# Altium integrated library ON Semi Silicon Controlled Rectifiers (SCRs).IntLib: 163 symbols (part 4 of 4)
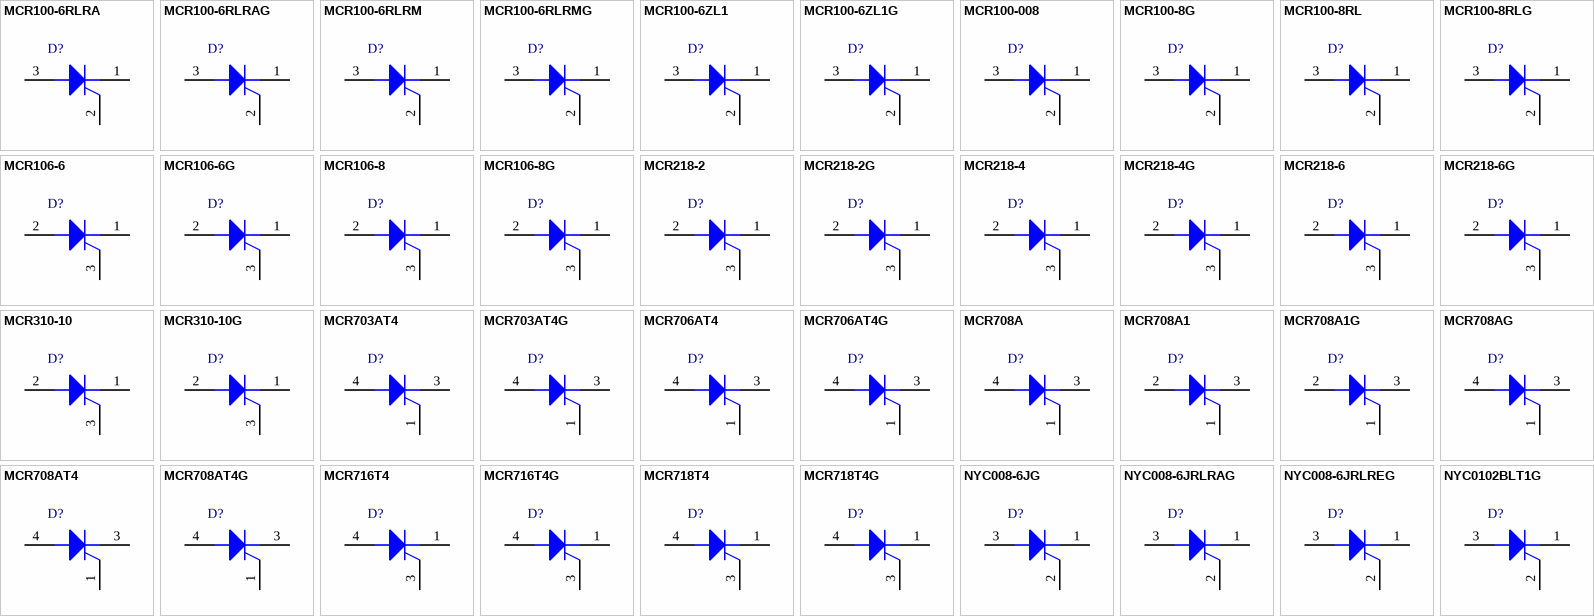
[diagram p7: symbols MCR100-6RLRA to NYC0102BLT1G]

## MCR218-6G
designator D?
Silicon Controlled Rectifier, Reverse Blocking Thyristor, 25 mA, 1.5 V, 3-Pin TO-220, Pb-Free, Bulk Box; Manufacturer: On Semiconductor; PartNumber: MCR218-6G; IGT Max (mA): 25; IT(RMS) Max (A): 8; ITSM Max (A): 100; VGT Max (V): 1.5; DatasheetVersion: Rev. 4; PackageVersion: Rev. O, 07/2008; PackageReference: TO-220-3-221A-07; PackageDescription: 3-Pin Flange Mount, Vertical Straight Lead, Body 9.97 x 4.445 mm, Pitch 2.54 mm; Supplier 1: Digi-Key; Supplier Part Number 1: MCR218-6G-ND; Supplier 2: Newark; Supplier Part Number 2: 26K3701; Supplier 3: Mouser; Supplier Part Number 3: 863-MCR218-6G; Packing: Bulk Box; RoHS: Pb-Free; Mounting Technology: Through Hole; ComponentLink1Description: Manufacturer URL; ComponentLink1URL: http://www.onsemi.com/; ComponentLink2Description: Datasheet; ComponentLink2URL: http://www.onsemi.com/pub_link/Collateral/MCR218-D.PDF; ComponentLink3Description: Package Specification; ComponentLink3URL: http://www.onsemi.com/pub_link/Collateral/221A-07.PDF
footprint ONSC-TO-220-3-221A-07 (FM, 3-Leads, Body 10.3x4.85mm, Pitch 2.54mm)
pins: 1 K, 2 A, 3 G

## MCR310-10
designator D?
Silicon Controlled Rectifier, Reverse Blocking Triode Thyristor, 0.2 mA, 1.5 V, 3-Pin TO-220, Bulk Box; Manufacturer: On Semiconductor; PartNumber: MCR310-10; IGT Max (mA): 0.2; IT(RMS) Max (A): 10; ITSM Max (A): 100; VGT Max (V): 1.5; DatasheetVersion: Rev. 3; PackageVersion: Rev. O, 07/2008; PackageReference: TO-220-3-221A-07; PackageDescription: 3-Pin Flange Mount, Vertical Straight Lead, Body 9.97 x 4.445 mm, Pitch 2.54 mm; Packing: Bulk Box; Mounting Technology: Through Hole; ComponentLink1Description: Manufacturer URL; ComponentLink1URL: http://www.onsemi.com/; ComponentLink2Description: Datasheet; ComponentLink2URL: http://www.onsemi.cn/pub_link/Collateral/MCR310-D.PDF; ComponentLink3Description: Package Specification; ComponentLink3URL: http://www.onsemi.com/pub_link/Collateral/221A-07.PDF
footprint ONSC-TO-220-3-221A-07 (FM, 3-Leads, Body 10.3x4.85mm, Pitch 2.54mm)
pins: 1 K, 2 A, 3 G

## MCR310-10G
designator D?
Silicon Controlled Rectifier, Reverse Blocking Triode Thyristor, 0.2 mA, 1.5 V, 3-Pin TO-220, Pb-Free, Bulk Box; Manufacturer: On Semiconductor; PartNumber: MCR310-10G; IGT Max (mA): 0.2; IT(RMS) Max (A): 10; ITSM Max (A): 100; VGT Max (V): 1.5; DatasheetVersion: Rev. 3; PackageVersion: Rev. O, 07/2008; PackageReference: TO-220-3-221A-07; PackageDescription: 3-Pin Flange Mount, Vertical Straight Lead, Body 9.97 x 4.445 mm, Pitch 2.54 mm; Supplier 1: Digi-Key; Supplier Part Number 1: MCR310-10GOS-ND; Supplier 2: Farnell; Supplier Part Number 2: 1126229; Supplier 3: Newark; Supplier Part Number 3: 42K0033; Supplier 4: Mouser; Supplier Part Number 4: 863-MCR310-10G; Packing: Bulk Box; RoHS: Pb-Free; Mounting Technology: Through Hole; ComponentLink1Description: Manufacturer URL; ComponentLink1URL: http://www.onsemi.com/; ComponentLink2Description: Datasheet; ComponentLink2URL: http://www.onsemi.cn/pub_link/Collateral/MCR310-D.PDF; ComponentLink3Description: Package Specification; ComponentLink3URL: http://www.onsemi.com/pub_link/Collateral/221A-07.PDF
footprint ONSC-TO-220-3-221A-07 (FM, 3-Leads, Body 10.3x4.85mm, Pitch 2.54mm)
pins: 1 K, 2 A, 3 G

## MCR703AT4
designator D?
Sensitive Gate Silicon Controlled Rectifier, Reverse Blocking Thyristor, 3-Pin DPAK, Tape and Reel; Manufacturer: On Semiconductor; PartNumber: MCR703AT4; IT(RMS) Max (A): 4; DatasheetVersion: Rev. 11; PackageVersion: Rev. E, 02/2014; PackageReference: DPAK-3-369C-01; PackageDescription: 3-Pin Flange Mount, Body 6.54 x 6.095 mm, Pitch 2.29 mm; Packing: Tape and Reel; Mounting Technology: Surface Mount; ComponentLink1Description: Manufacturer URL; ComponentLink1URL: http://www.onsemi.com/; ComponentLink2Description: Datasheet; ComponentLink2URL: http://www.onsemi.cn/pub_link/Collateral/MCR703A-D.PDF; ComponentLink3Description: Package Specification; ComponentLink3URL: http://www.onsemi.cn/pub_link/Collateral/369C.PDF
footprint ONSC-DPAK-3-369C-01_V (DPAK, 3-Leads, Body 6.54x6.095mm, Pitch 2.29mm)
pins: 1 G, 3 K, 4 A

## MCR703AT4G
designator D?
Sensitive Gate Silicon Controlled Rectifier, Reverse Blocking Thyristor, 3-Pin DPAK, Pb-Free, Tape and Reel; Manufacturer: On Semiconductor; PartNumber: MCR703AT4G; IT(RMS) Max (A): 4; DatasheetVersion: Rev. 11; PackageVersion: Rev. E, 02/2014; PackageReference: DPAK-3-369C-01; PackageDescription: 3-Pin Flange Mount, Body 6.54 x 6.095 mm, Pitch 2.29 mm; Supplier 1: Digi-Key; Supplier Part Number 1: MCR703AT4GOSTR-ND; Supplier 2: Digi-Key; Supplier Part Number 2: MCR703AT4GOSCT-ND; Supplier 3: Digi-Key; Supplier Part Number 3: MCR703AT4GOSDKR-ND; Supplier 4: Farnell; Supplier Part Number 4: 1611418; Supplier 5: Farnell; Supplier Part Number 5: 1611418RL; Supplier 6: Newark; Supplier Part Number 6: 26K3706; Supplier 7: Mouser; Supplier Part Number 7: 863-MCR703AT4G; Packing: Tape and Reel; RoHS: Pb-Free; Mounting Technology: Surface Mount; ComponentLink1Description: Manufacturer URL; ComponentLink1URL: http://www.onsemi.com/; ComponentLink2Description: Datasheet; ComponentLink2URL: http://www.onsemi.cn/pub_link/Collateral/MCR703A-D.PDF; ComponentLink3Description: Package Specification; ComponentLink3URL: http://www.onsemi.cn/pub_link/Collateral/369C.PDF
footprint ONSC-DPAK-3-369C-01_V (DPAK, 3-Leads, Body 6.54x6.095mm, Pitch 2.29mm)
pins: 1 G, 3 K, 4 A

## MCR706AT4
designator D?
Sensitive Gate Silicon Controlled Rectifier, Reverse Blocking Thyristor, 3-Pin DPAK, Tape and Reel; Manufacturer: On Semiconductor; PartNumber: MCR706AT4; IT(RMS) Max (A): 4; DatasheetVersion: Rev. 11; PackageVersion: Rev. E, 02/2014; PackageReference: DPAK-3-369C-01; PackageDescription: 3-Pin Flange Mount, Body 6.54 x 6.095 mm, Pitch 2.29 mm; Packing: Tape and Reel; Mounting Technology: Surface Mount; ComponentLink1Description: Manufacturer URL; ComponentLink1URL: http://www.onsemi.com/; ComponentLink2Description: Datasheet; ComponentLink2URL: http://www.onsemi.cn/pub_link/Collateral/MCR703A-D.PDF; ComponentLink3Description: Package Specification; ComponentLink3URL: http://www.onsemi.cn/pub_link/Collateral/369C.PDF
footprint ONSC-DPAK-3-369C-01_V (DPAK, 3-Leads, Body 6.54x6.095mm, Pitch 2.29mm)
pins: 1 G, 3 K, 4 A

## MCR706AT4G
designator D?
Sensitive Gate Silicon Controlled Rectifier, Reverse Blocking Thyristor, 3-Pin DPAK, Pb-Free, Tape and Reel; Manufacturer: On Semiconductor; PartNumber: MCR706AT4G; IT(RMS) Max (A): 4; DatasheetVersion: Rev. 11; PackageVersion: Rev. E, 02/2014; PackageReference: DPAK-3-369C-01; PackageDescription: 3-Pin Flange Mount, Body 6.54 x 6.095 mm, Pitch 2.29 mm; Supplier 1: Digi-Key; Supplier Part Number 1: MCR706AT4GOSTR-ND; Supplier 2: Digi-Key; Supplier Part Number 2: MCR706AT4GOSCT-ND; Supplier 3: Farnell; Supplier Part Number 3: 1155713; Supplier 4: Newark; Supplier Part Number 4: 88H4692; Supplier 5: Mouser; Supplier Part Number 5: 863-MCR706AT4G; Packing: Tape and Reel; RoHS: Pb-Free; Mounting Technology: Surface Mount; ComponentLink1Description: Manufacturer URL; ComponentLink1URL: http://www.onsemi.com/; ComponentLink2Description: Datasheet; ComponentLink2URL: http://www.onsemi.cn/pub_link/Collateral/MCR703A-D.PDF; ComponentLink3Description: Package Specification; ComponentLink3URL: http://www.onsemi.cn/pub_link/Collateral/369C.PDF
footprint ONSC-DPAK-3-369C-01_V (DPAK, 3-Leads, Body 6.54x6.095mm, Pitch 2.29mm)
pins: 1 G, 3 K, 4 A

## MCR708A
designator D?
Sensitive Gate Silicon Controlled Rectifier, Reverse Blocking Thyristor, 3-Pin DPAK, Tube; Manufacturer: On Semiconductor; PartNumber: MCR708A; IT(RMS) Max (A): 4; DatasheetVersion: Rev. 11; PackageVersion: Rev. E, 02/2014; PackageReference: DPAK-3-369C-01; PackageDescription: 3-Pin Flange Mount, Body 6.54 x 6.095 mm, Pitch 2.29 mm; Packing: Tube; Mounting Technology: Surface Mount; ComponentLink1Description: Manufacturer URL; ComponentLink1URL: http://www.onsemi.com/; ComponentLink2Description: Datasheet; ComponentLink2URL: http://www.onsemi.cn/pub_link/Collateral/MCR703A-D.PDF; ComponentLink3Description: Package Specification; ComponentLink3URL: http://www.onsemi.cn/pub_link/Collateral/369C.PDF
footprint ONSC-DPAK-3-369C-01_V (DPAK, 3-Leads, Body 6.54x6.095mm, Pitch 2.29mm)
pins: 1 G, 3 K, 4 A

## MCR708A1
designator D?
Sensitive Gate Silicon Controlled Rectifier, Reverse Blocking Thyristor, 3-Pin IPAK, Tube; Manufacturer: On Semiconductor; PartNumber: MCR708A1; IT(RMS) Max (A): 4; DatasheetVersion: Rev. 11; PackageVersion: Rev. C, 12/2010; PackageReference: IPAK-3-369D-01; PackageDescription: 3-Pin Flange Mount, Vertical Straight Lead, Body 6.54 x 2.285 mm, Pitch 2.29 mm; Supplier 1: Digi-Key; Supplier Part Number 1: MCR708A1-ND; Packing: Tube; Mounting Technology: Through Hole; Code_JEDEC: TO-251; ComponentLink1Description: Manufacturer URL; ComponentLink1URL: http://www.onsemi.com/; ComponentLink2Description: Datasheet; ComponentLink2URL: http://www.onsemi.cn/pub_link/Collateral/MCR703A-D.PDF; ComponentLink3Description: Package Specification; ComponentLink3URL: http://www.onsemi.cn/pub_link/Collateral/369D.PDF
footprint ONSC-IPAK-3-369D-01 (FM, 3-Leads, Body 6.75x2.4mm, Pitch 2.29mm)
pins: 1 G, 2 A, 3 K

## MCR708A1G
designator D?
Sensitive Gate Silicon Controlled Rectifier, Reverse Blocking Thyristor, 3-Pin IPAK, Pb-Free, Tube; Manufacturer: On Semiconductor; PartNumber: MCR708A1G; IT(RMS) Max (A): 4; DatasheetVersion: Rev. 11; PackageVersion: Rev. C, 12/2010; PackageReference: IPAK-3-369D-01; PackageDescription: 3-Pin Flange Mount, Vertical Straight Lead, Body 6.54 x 2.285 mm, Pitch 2.29 mm; Supplier 1: Digi-Key; Supplier Part Number 1: MCR708A1G-ND; Supplier 2: Newark; Supplier Part Number 2: 26K3707; Supplier 3: Mouser; Supplier Part Number 3: 863-MCR708A1G; Packing: Tube; RoHS: Pb-Free; Mounting Technology: Through Hole; Code_JEDEC: TO-251; ComponentLink1Description: Manufacturer URL; ComponentLink1URL: http://www.onsemi.com/; ComponentLink2Description: Datasheet; ComponentLink2URL: http://www.onsemi.cn/pub_link/Collateral/MCR703A-D.PDF; ComponentLink3Description: Package Specification; ComponentLink3URL: http://www.onsemi.cn/pub_link/Collateral/369D.PDF
footprint ONSC-IPAK-3-369D-01 (FM, 3-Leads, Body 6.75x2.4mm, Pitch 2.29mm)
pins: 1 G, 2 A, 3 K

## MCR708AG
designator D?
Sensitive Gate Silicon Controlled Rectifier, Reverse Blocking Thyristor, 3-Pin DPAK, Pb-Free, Tube; Manufacturer: On Semiconductor; PartNumber: MCR708AG; IT(RMS) Max (A): 4; DatasheetVersion: Rev. 11; PackageVersion: Rev. E, 02/2014; PackageReference: DPAK-3-369C-01; PackageDescription: 3-Pin Flange Mount, Body 6.54 x 6.095 mm, Pitch 2.29 mm; Supplier 1: Digi-Key; Supplier Part Number 1: MCR708AGOS-ND; Supplier 2: Newark; Supplier Part Number 2: 42K0034; Supplier 3: Mouser; Supplier Part Number 3: 863-MCR708AG; Packing: Tube; RoHS: Pb-Free; Mounting Technology: Surface Mount; ComponentLink1Description: Manufacturer URL; ComponentLink1URL: http://www.onsemi.com/; ComponentLink2Description: Datasheet; ComponentLink2URL: http://www.onsemi.cn/pub_link/Collateral/MCR703A-D.PDF; ComponentLink3Description: Package Specification; ComponentLink3URL: http://www.onsemi.cn/pub_link/Collateral/369C.PDF
footprint ONSC-DPAK-3-369C-01_V (DPAK, 3-Leads, Body 6.54x6.095mm, Pitch 2.29mm)
pins: 1 G, 3 K, 4 A

## MCR708AT4
designator D?
Sensitive Gate Silicon Controlled Rectifier, Reverse Blocking Thyristor, 3-Pin DPAK, Tape and Reel; Manufacturer: On Semiconductor; PartNumber: MCR708AT4; IT(RMS) Max (A): 4; DatasheetVersion: Rev. 11; PackageVersion: Rev. E, 02/2014; PackageReference: DPAK-3-369C-01; PackageDescription: 3-Pin Flange Mount, Body 6.54 x 6.095 mm, Pitch 2.29 mm; Supplier 1: Digi-Key; Supplier Part Number 1: MCR708AT4OSCT-ND; Supplier 2: Digi-Key; Supplier Part Number 2: MCR708AT4OSDKR-ND; Packing: Tape and Reel; Mounting Technology: Surface Mount; ComponentLink1Description: Manufacturer URL; ComponentLink1URL: http://www.onsemi.com/; ComponentLink2Description: Datasheet; ComponentLink2URL: http://www.onsemi.cn/pub_link/Collateral/MCR703A-D.PDF; ComponentLink3Description: Package Specification; ComponentLink3URL: http://www.onsemi.cn/pub_link/Collateral/369C.PDF
footprint ONSC-DPAK-3-369C-01_V (DPAK, 3-Leads, Body 6.54x6.095mm, Pitch 2.29mm)
pins: 1 G, 3 K, 4 A

## MCR708AT4G
designator D?
Sensitive Gate Silicon Controlled Rectifier, Reverse Blocking Thyristor, 3-Pin DPAK, Pb-Free, Tape and Reel; Manufacturer: On Semiconductor; PartNumber: MCR708AT4G; IT(RMS) Max (A): 4; DatasheetVersion: Rev. 11; PackageVersion: Rev. E, 02/2014; PackageReference: DPAK-3-369C-01; PackageDescription: 3-Pin Flange Mount, Body 6.54 x 6.095 mm, Pitch 2.29 mm; Supplier 1: Digi-Key; Supplier Part Number 1: MCR708AT4GOSTR-ND; Supplier 2: Digi-Key; Supplier Part Number 2: MCR708AT4GOSCT-ND; Supplier 3: Digi-Key; Supplier Part Number 3: MCR708AT4GOSDKR-ND; Supplier 4: Farnell; Supplier Part Number 4: 1166984; Supplier 5: Farnell; Supplier Part Number 5: 1166984RL; Supplier 6: Farnell; Supplier Part Number 6: 2119779; Supplier 7: Newark; Supplier Part Number 7: 71J5365; Supplier 8: Mouser; Supplier Part Number 8: 863-MCR708AT4G; Packing: Tape and Reel; RoHS: Pb-Free; Mounting Technology: Surface Mount; ComponentLink1Description: Manufacturer URL; ComponentLink1URL: http://www.onsemi.com/; ComponentLink2Description: Datasheet; ComponentLink2URL: http://www.onsemi.cn/pub_link/Collateral/MCR703A-D.PDF; ComponentLink3Description: Package Specification; ComponentLink3URL: http://www.onsemi.cn/pub_link/Collateral/369C.PDF
footprint ONSC-DPAK-3-369C-01_V (DPAK, 3-Leads, Body 6.54x6.095mm, Pitch 2.29mm)
pins: 1 G, 3 K, 4 A

## MCR716T4
designator D?
Sensitive Gate Silicon Controlled Rectifier, Reverse Blocking Thyristor, 3-Pin DPAK, Tape and Reel; Manufacturer: On Semiconductor; PartNumber: MCR716T4; IT(RMS) Max (A): 4; ITSM Max (A): 25; DatasheetVersion: Rev. 8; PackageVersion: Rev. E, 02/2014; PackageReference: DPAK-3-369C-01; PackageDescription: 3-Pin Flange Mount, Body 6.54 x 6.095 mm, Pitch 2.29 mm; Supplier 1: Digi-Key; Supplier Part Number 1: MCR716T4OSCT-ND; Supplier 2: Digi-Key; Supplier Part Number 2: MCR716T4OSDKR-ND; Packing: Tape and Reel; Mounting Technology: Surface Mount; ComponentLink1Description: Manufacturer URL; ComponentLink1URL: http://www.onsemi.com/; ComponentLink2Description: Datasheet; ComponentLink2URL: http://www.onsemi.cn/pub_link/Collateral/MCR716-D.PDF; ComponentLink3Description: Package Specification; ComponentLink3URL: http://www.onsemi.cn/pub_link/Collateral/369C.PDF
footprint ONSC-DPAK-3-369C-01_V (DPAK, 3-Leads, Body 6.54x6.095mm, Pitch 2.29mm)
pins: 1 K, 3 G, 4 A

## MCR716T4G
designator D?
Sensitive Gate Silicon Controlled Rectifier, Reverse Blocking Thyristor, 3-Pin DPAK, Pb-Free, Tape and Reel; Manufacturer: On Semiconductor; PartNumber: MCR716T4G; IT(RMS) Max (A): 4; ITSM Max (A): 25; DatasheetVersion: Rev. 8; PackageVersion: Rev. E, 02/2014; PackageReference: DPAK-3-369C-01; PackageDescription: 3-Pin Flange Mount, Body 6.54 x 6.095 mm, Pitch 2.29 mm; Supplier 1: Digi-Key; Supplier Part Number 1: MCR716T4GOSTR-ND; Supplier 2: Digi-Key; Supplier Part Number 2: MCR716T4GOSCT-ND; Supplier 3: Digi-Key; Supplier Part Number 3: MCR716T4GOSDKR-ND; Supplier 4: Newark; Supplier Part Number 4: 10N9431; Supplier 5: Newark; Supplier Part Number 5: 42K0035; Supplier 6: Mouser; Supplier Part Number 6: 863-MCR716T4G; Packing: Tape and Reel; RoHS: Pb-Free; Mounting Technology: Surface Mount; ComponentLink1Description: Manufacturer URL; ComponentLink1URL: http://www.onsemi.com/; ComponentLink2Description: Datasheet; ComponentLink2URL: http://www.onsemi.cn/pub_link/Collateral/MCR716-D.PDF; ComponentLink3Description: Package Specification; ComponentLink3URL: http://www.onsemi.cn/pub_link/Collateral/369C.PDF
footprint ONSC-DPAK-3-369C-01_V (DPAK, 3-Leads, Body 6.54x6.095mm, Pitch 2.29mm)
pins: 1 K, 3 G, 4 A

## MCR718T4
designator D?
Sensitive Gate Silicon Controlled Rectifier, Reverse Blocking Thyristor, 3-Pin DPAK, Tape and Reel; Manufacturer: On Semiconductor; PartNumber: MCR718T4; IT(RMS) Max (A): 4; ITSM Max (A): 25; DatasheetVersion: Rev. 8; PackageVersion: Rev. E, 02/2014; PackageReference: DPAK-3-369C-01; PackageDescription: 3-Pin Flange Mount, Body 6.54 x 6.095 mm, Pitch 2.29 mm; Supplier 1: Digi-Key; Supplier Part Number 1: MCR718T4OSTR-ND; Supplier 2: Digi-Key; Supplier Part Number 2: MCR718T4OSCT-ND; Supplier 3: Digi-Key; Supplier Part Number 3: MCR718T4OSDKR-ND; Packing: Tape and Reel; Mounting Technology: Surface Mount; ComponentLink1Description: Manufacturer URL; ComponentLink1URL: http://www.onsemi.com/; ComponentLink2Description: Datasheet; ComponentLink2URL: http://www.onsemi.cn/pub_link/Collateral/MCR716-D.PDF; ComponentLink3Description: Package Specification; ComponentLink3URL: http://www.onsemi.cn/pub_link/Collateral/369C.PDF
footprint ONSC-DPAK-3-369C-01_V (DPAK, 3-Leads, Body 6.54x6.095mm, Pitch 2.29mm)
pins: 1 K, 3 G, 4 A

## MCR718T4G
designator D?
Sensitive Gate Silicon Controlled Rectifier, Reverse Blocking Thyristor, 3-Pin DPAK, Pb-Free, Tape and Reel; Manufacturer: On Semiconductor; PartNumber: MCR718T4G; IT(RMS) Max (A): 4; ITSM Max (A): 25; DatasheetVersion: Rev. 8; PackageVersion: Rev. E, 02/2014; PackageReference: DPAK-3-369C-01; PackageDescription: 3-Pin Flange Mount, Body 6.54 x 6.095 mm, Pitch 2.29 mm; Supplier 1: Digi-Key; Supplier Part Number 1: MCR718T4GOSTR-ND; Supplier 2: Digi-Key; Supplier Part Number 2: MCR718T4GOSCT-ND; Supplier 3: Digi-Key; Supplier Part Number 3: MCR718T4GOSDKR-ND; Supplier 4: Newark; Supplier Part Number 4: 85W2290; Supplier 5: Newark; Supplier Part Number 5: 42K0036; Supplier 6: Mouser; Supplier Part Number 6: 863-MCR718T4G; Packing: Tape and Reel; RoHS: Pb-Free; Mounting Technology: Surface Mount; ComponentLink1Description: Manufacturer URL; ComponentLink1URL: http://www.onsemi.com/; ComponentLink2Description: Datasheet; ComponentLink2URL: http://www.onsemi.cn/pub_link/Collateral/MCR716-D.PDF; ComponentLink3Description: Package Specification; ComponentLink3URL: http://www.onsemi.cn/pub_link/Collateral/369C.PDF
footprint ONSC-DPAK-3-369C-01_V (DPAK, 3-Leads, Body 6.54x6.095mm, Pitch 2.29mm)
pins: 1 K, 3 G, 4 A

## NYC008-6JG
designator D?
Sensitive Gate Silicon Controlled Rectifier, Reverse Blocking Thyristor, 0.2 mA, 3-Pin TO-92, Pb-Free, Bulk Box; Manufacturer: On Semiconductor; PartNumber: NYC008-6JG; IGT Max (mA): 0.2; IT(RMS) Max (A): 0.8; ITSM Max (A): 10; DatasheetVersion: Rev. 0; PackageVersion: Rev. AM; PackageReference: TO-92-3-29-11_AM_SL; PackageDescription: 3-Pin Transistor Outline, Body 4.825 x 3.685 mm, Pitch 1.27 mm; Supplier 1: Digi-Key; Supplier Part Number 1: NYC008-6JG-ND; Supplier 2: Mouser; Supplier Part Number 2: 863-NYC008-6JG; Packing: Bulk Box; RoHS: Pb-Free; Mounting Technology: Through Hole; ComponentLink1Description: Manufacturer URL; ComponentLink1URL: http://www.onsemi.com/; ComponentLink2Description: Datasheet; ComponentLink2URL: http://www.onsemi.cn/pub_link/Collateral/NYC008-6JG-D.PDF; ComponentLink3Description: Package Specification; ComponentLink3URL: http://www.onsemi.cn/pub_link/Collateral/2N6426-D.PDF
footprint ONSC-TO-92-3-29-11 (TO, 3-Leads, Body Dia 4.7mm, Pitch 1.27mm)
pins: 1 K, 2 G, 3 A

## NYC008-6JRLRAG
designator D?
Sensitive Gate Silicon Controlled Rectifier, Reverse Blocking Thyristor, 0.2 mA, 3-Pin TO-92, Pb-Free, Tape and Reel; Manufacturer: On Semiconductor; PartNumber: NYC008-6JRLRAG; IGT Max (mA): 0.2; IT(RMS) Max (A): 0.8; ITSM Max (A): 10; DatasheetVersion: Rev. 0; PackageVersion: Rev. AM; PackageReference: TO-92-3-29-11_AM_SL; PackageDescription: 3-Pin Transistor Outline, Body 4.825 x 3.685 mm, Pitch 1.27 mm; Supplier 1: Digi-Key; Supplier Part Number 1: NYC008-6JRLRAG-ND; Supplier 2: Newark; Supplier Part Number 2: 71R6726; Supplier 3: Mouser; Supplier Part Number 3: 863-NYC008-6JRLRAG; Packing: Tape and Reel; RoHS: Pb-Free; Mounting Technology: Through Hole; ComponentLink1Description: Manufacturer URL; ComponentLink1URL: http://www.onsemi.com/; ComponentLink2Description: Datasheet; ComponentLink2URL: http://www.onsemi.cn/pub_link/Collateral/NYC008-6JG-D.PDF; ComponentLink3Description: Package Specification; ComponentLink3URL: http://www.onsemi.cn/pub_link/Collateral/2N6426-D.PDF
footprint ONSC-TO-92-3-29-11 (TO, 3-Leads, Body Dia 4.7mm, Pitch 1.27mm)
pins: 1 K, 2 G, 3 A

## NYC008-6JRLREG
designator D?
Sensitive Gate Silicon Controlled Rectifier, Reverse Blocking Thyristor, 0.2 mA, 3-Pin TO-92, Pb-Free, Tape and Reel; Manufacturer: On Semiconductor; PartNumber: NYC008-6JRLREG; IGT Max (mA): 0.2; IT(RMS) Max (A): 0.8; ITSM Max (A): 10; DatasheetVersion: Rev. 0; PackageVersion: Rev. AM; PackageReference: TO-92-3-29-11_AM_SL; PackageDescription: 3-Pin Transistor Outline, Body 4.825 x 3.685 mm, Pitch 1.27 mm; Supplier 1: Digi-Key; Supplier Part Number 1: NYC008-6JRLREG-ND; Supplier 2: Mouser; Supplier Part Number 2: 863-NYC008-6JRLREG; Packing: Tape and Reel; RoHS: Pb-Free; Mounting Technology: Through Hole; ComponentLink1Description: Manufacturer URL; ComponentLink1URL: http://www.onsemi.com/; ComponentLink2Description: Datasheet; ComponentLink2URL: http://www.onsemi.cn/pub_link/Collateral/NYC008-6JG-D.PDF; ComponentLink3Description: Package Specification; ComponentLink3URL: http://www.onsemi.cn/pub_link/Collateral/2N6426-D.PDF
footprint ONSC-TO-92-3-29-11 (TO, 3-Leads, Body Dia 4.7mm, Pitch 1.27mm)
pins: 1 K, 2 G, 3 A

## NYC0102BLT1G
designator D?
Sensitive Gate Silicon Controlled Rectifier, Reverse Blocking Thyristor, 0.2 mA, 0.8 V, 3-Pin SOT-23, Pb-Free, Tape and Reel; Manufacturer: On Semiconductor; PartNumber: NYC0102BLT1G; IGT Max (mA): 0.2; IT(RMS) Max (A): 0.25; ITSM Max (A): 7; VGT Max (V): 0.8; DatasheetVersion: Rev. 1; PackageVersion: Rev. AP, 11/2009; PackageReference: SOT-23-3-318-08; PackageDescription: 3-Pin Small Outline Transistor, Body 2.92 x 1.3 mm, Pitch 0.95 mm; Supplier 1: Digi-Key; Supplier Part Number 1: NYC0102BLT1GOSTR-ND; Supplier 2: Digi-Key; Supplier Part Number 2: NYC0102BLT1GOSCT-ND; Supplier 3: Digi-Key; Supplier Part Number 3: NYC0102BLT1GOSDKR-ND; Supplier 4: Farnell; Supplier Part Number 4: 1886712; Supplier 5: Newark; Supplier Part Number 5: 13P5629; Supplier 6: Mouser; Supplier Part Number 6: 863-NYC0102BLT1G; Packing: Tape and Reel; RoHS: Pb-Free; Mounting Technology: Surface Mount; ComponentLink1Description: Manufacturer URL; ComponentLink1URL: http://www.onsemi.com/; ComponentLink2Description: Datasheet; ComponentLink2URL: http://www.onsemi.cn/pub_link/Collateral/NYC0102BL-D.PDF; ComponentLink3Description: Package Specification; ComponentLink3URL: http://www.onsemi.cn/pub_link/Collateral/318-08.PDF
footprint ONSC-SOT-23-3-318-08_V (SOT23, 3-Leads, Body 2.92x1.3mm, Pitch 0.95mm)
pins: 1 K, 2 G, 3 A

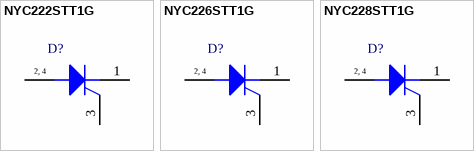
[diagram p4: symbols NYC222STT1G to NYC228STT1G]

## NYC222STT1G
designator D?
Sensitive Gate Silicon Controlled Rectifier, Reverse Blocking Thyristor, 4-Pin SOT-223, Pb-Free, Tape and Reel; Manufacturer: On Semiconductor; PartNumber: NYC222STT1G; IT(RMS) Max (A): 1.5; ITSM Max (A): 15; DatasheetVersion: Rev. 0; PackageVersion: Rev. N, 08/2009; PackageReference: SOT-223-4-318E-04; PackageDescription: 4-Pin Small Outline Transistor, Body 6.5 x 3.5 mm, Pitch 2.3 mm; Supplier 1: Digi-Key; Supplier Part Number 1: NYC222STT1G-ND; Supplier 2: Newark; Supplier Part Number 2: 13P5630; Supplier 3: Mouser; Supplier Part Number 3: 863-NYC222STT1G; Packing: Tape and Reel; RoHS: Pb-Free; Mounting Technology: Surface Mount; ComponentLink1Description: Manufacturer URL; ComponentLink1URL: http://www.onsemi.com/; ComponentLink2Description: Datasheet; ComponentLink2URL: http://www.onsemi.cn/pub_link/Collateral/NYC222STT1G-D.PDF; ComponentLink3Description: Package Specification; ComponentLink3URL: http://www.onsemi.com/pub_link/Collateral/318E-04.PDF
footprint ONSC-SOT-223-4-318E-04_V (SOT223, 4-Leads, Body 6.5x3.5mm, Pitch 2.3mm)
pins: 1 K, 2 A, 3 G, 4 A
text: 2, 4

## NYC226STT1G
designator D?
Sensitive Gate Silicon Controlled Rectifier, Reverse Blocking Thyristor, 4-Pin SOT-223, Pb-Free, Tape and Reel; Manufacturer: On Semiconductor; PartNumber: NYC226STT1G; IT(RMS) Max (A): 1.5; ITSM Max (A): 15; DatasheetVersion: Rev. 0; PackageVersion: Rev. N, 08/2009; PackageReference: SOT-223-4-318E-04; PackageDescription: 4-Pin Small Outline Transistor, Body 6.5 x 3.5 mm, Pitch 2.3 mm; Supplier 1: Digi-Key; Supplier Part Number 1: NYC226STT1G-ND; Supplier 2: Newark; Supplier Part Number 2: 13P5631; Supplier 3: Mouser; Supplier Part Number 3: 863-NYC226STT1G; Packing: Tape and Reel; RoHS: Pb-Free; Mounting Technology: Surface Mount; ComponentLink1Description: Manufacturer URL; ComponentLink1URL: http://www.onsemi.com/; ComponentLink2Description: Datasheet; ComponentLink2URL: http://www.onsemi.cn/pub_link/Collateral/NYC222STT1G-D.PDF; ComponentLink3Description: Package Specification; ComponentLink3URL: http://www.onsemi.com/pub_link/Collateral/318E-04.PDF
footprint ONSC-SOT-223-4-318E-04_V (SOT223, 4-Leads, Body 6.5x3.5mm, Pitch 2.3mm)
pins: 1 K, 2 A, 3 G, 4 A
text: 2, 4

## NYC228STT1G
designator D?
Sensitive Gate Silicon Controlled Rectifier, Reverse Blocking Thyristor, 4-Pin SOT-223, Pb-Free, Tape and Reel; Manufacturer: On Semiconductor; PartNumber: NYC228STT1G; IT(RMS) Max (A): 1.5; ITSM Max (A): 15; DatasheetVersion: Rev. 0; PackageVersion: Rev. N, 08/2009; PackageReference: SOT-223-4-318E-04; PackageDescription: 4-Pin Small Outline Transistor, Body 6.5 x 3.5 mm, Pitch 2.3 mm; Supplier 1: Digi-Key; Supplier Part Number 1: NYC228STT1G-ND; Supplier 2: Mouser; Supplier Part Number 2: 863-NYC228STT1G; Packing: Tape and Reel; RoHS: Pb-Free; Mounting Technology: Surface Mount; ComponentLink1Description: Manufacturer URL; ComponentLink1URL: http://www.onsemi.com/; ComponentLink2Description: Datasheet; ComponentLink2URL: http://www.onsemi.cn/pub_link/Collateral/NYC222STT1G-D.PDF; ComponentLink3Description: Package Specification; ComponentLink3URL: http://www.onsemi.com/pub_link/Collateral/318E-04.PDF
footprint ONSC-SOT-223-4-318E-04_V (SOT223, 4-Leads, Body 6.5x3.5mm, Pitch 2.3mm)
pins: 1 K, 2 A, 3 G, 4 A
text: 2, 4